# Altium schematic symbol library Schlib1.SchLib: 1 symbol
Pins are listed as number, name and electrical type; pins without a type are passive.

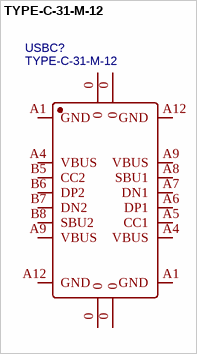
[diagram p0: symbol TYPE-C-31-M-12]

## TYPE-C-31-M-12
designator USBC?
Type-C母座; BOM_Manufacturer: Rectangular Connectors - Contacts; Contributor: LCSC; BOM_Supplier: LCSC; BOM_Supplier Part: C165948; BOM_Manufacturer Part: TYPE-C-31-M-12; spicePre: U; spiceSymbolName: TYPE-C-31-M-12
footprint USB-C_SMD-TYPE-C-31-M-12
pins: 0, 0, 0, 0, A1 GND, A1 GND, A4 VBUS, A4 VBUS, A5 CC1, A6 DP1, A7 DN1, A8 SBU1, A9 VBUS, A9 VBUS, A12 GND, A12 GND, B5 CC2, B6 DP2, B7 DN2, B8 SBU2